# Altium footprint library IC_Texas_Instruments_TPS79630DCQR_2.PcbLib: 1 footprints
Each footprint in its own frame and in the unit in brackets; x right, y up, seen from the top. Pads: shape width x height; smd on the part's side, far side on the other; paste and mask are expansions set on the pad; w line width, h text height; cw(c..) or ccw(c..) is an arc to the next point about the centre after c.
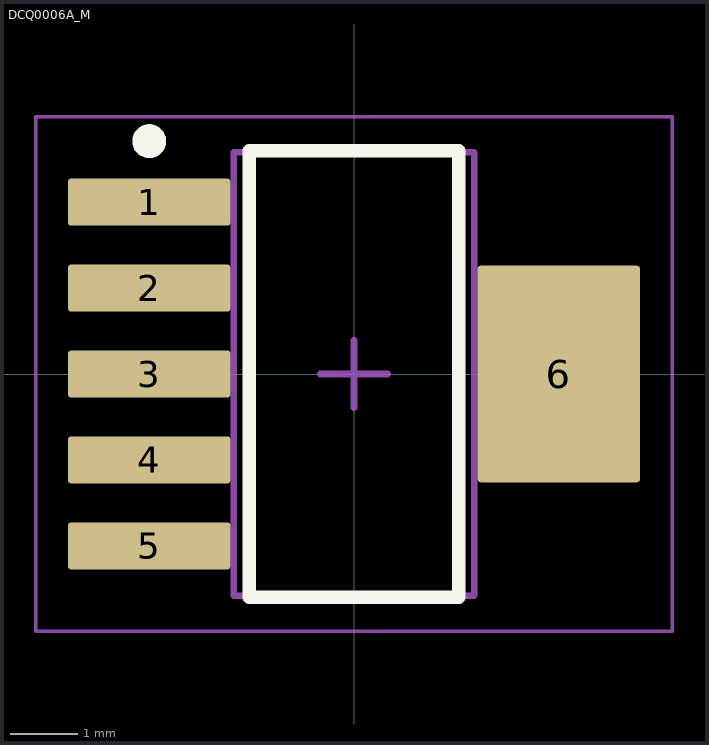
[diagram p0: the footprint, top view; thin cyan lines are the x and y axes]

## DCQ0006A_M [mm] "SOT223, 6-Leads, Body 6.55x3.55mm, Pitch 1.27mm, IPC Low Density"
height 1.8
pads (6):
  rrect14% 2.4x0.7 smd: 1(-3.025,2.54) 2(-3.025,1.27) 3(-3.025,0) 4(-3.025,-1.27) 5(-3.025,-2.54)
  rrect4% 2.4x3.2 smd: 6(3.025,0)
Top Overlay:
  circle w0.25: c-3.025,3.44 r0.125
  lines w0.2: -1.55,-3.3 1.55,-3.3 1.55,3.3 -1.55,3.3 -1.55,-3.3
Mechanical 1:
  text ".Designator" at -1.397,-0.381 h0.8
Mechanical 13:
  lines w0.1: -1.775,-3.275 1.775,-3.275 1.775,3.275 -1.775,3.275 -1.775,-3.275
Mechanical 15:
  lines w0.05: -4.7,-3.8 4.7,-3.8 4.7,3.8 -4.7,3.8 -4.7,-3.8
  lines w0.1: -0.5,0 0.5,0 ; 0,-0.5 0,0.5
3D body "DCQ0006AakaMP06A.stp": height 1.64, standoff -0.04, extent -3.48,-3.25 3.48,3.25